# Altium schematic symbol library Schlib1.SchLib: 48 symbols (part 2 of 2)
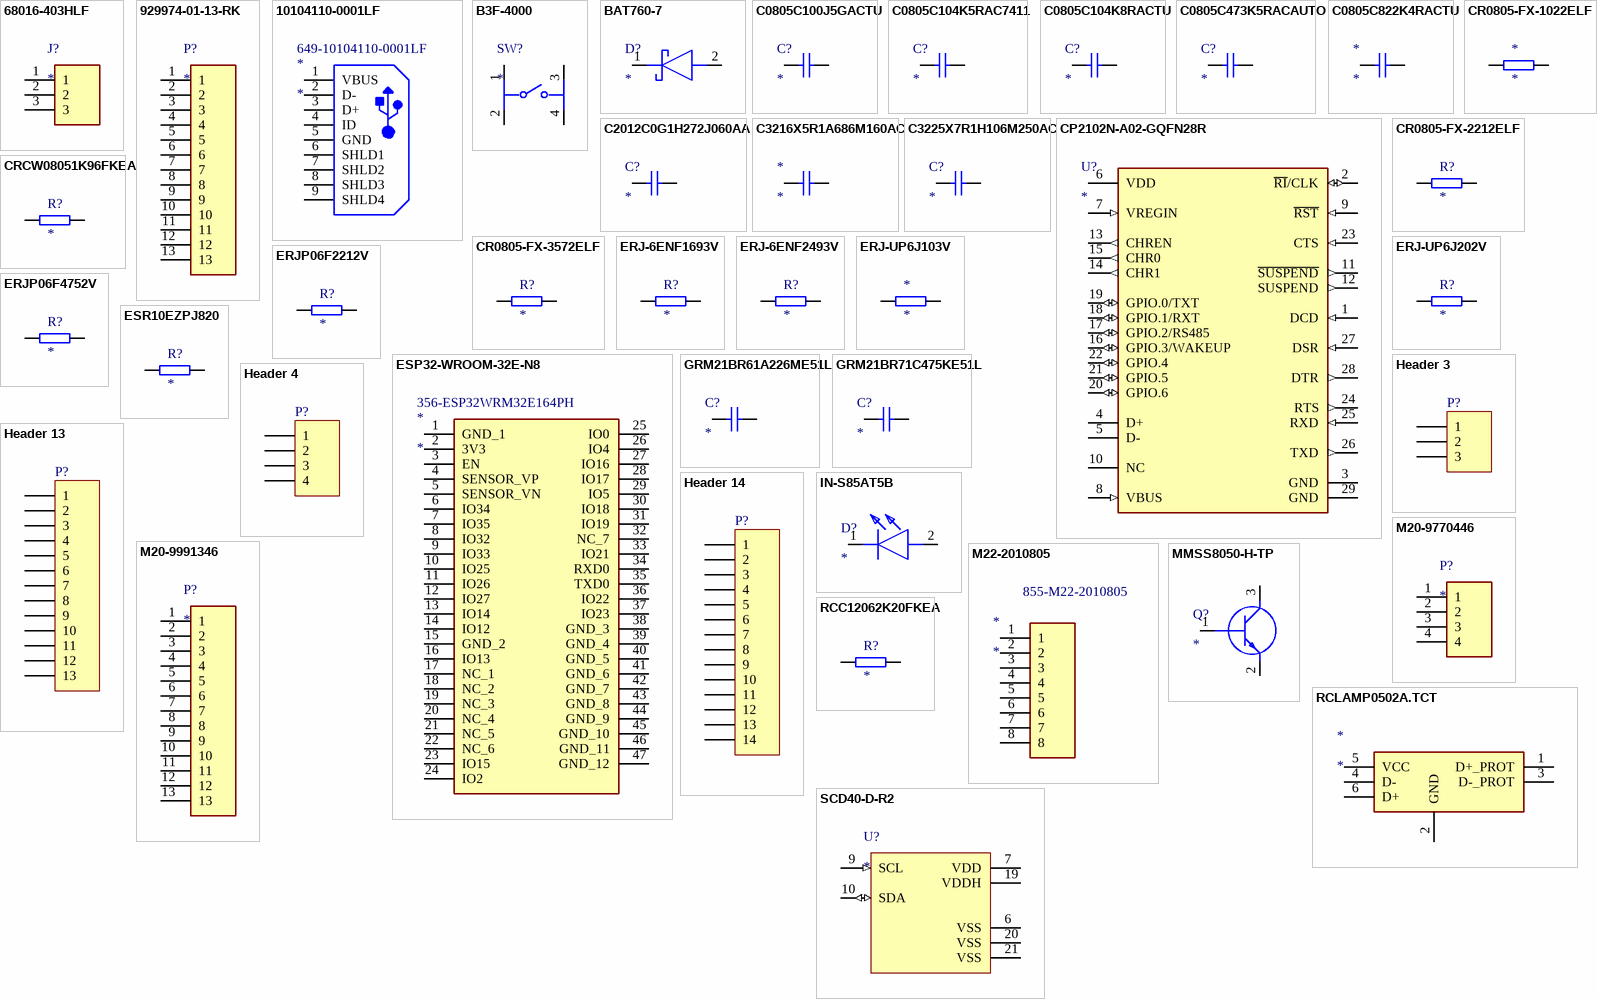
[diagram p2: symbols 68016-403HLF to SCD40-D-R2]

## IN-S85AT5B
designator D?
Led Blue Clear 0805 SMD; Manufacturer: Inolux; Manufacturer Part Number: IN-S85AT5B; Lens Style: Flat; Luminous Intensity: 80mcd; Forward Voltage: 3V; Test Current: 5mA; Viewing Angle: 120°; Dominant Wavelength: 470nm; Lens Size: 1.25mm; Supplier 1: Mouser; RoHS: No; Category: LEDs; Stock 1: 32542; Pricing 1: 1=0,37000, 10=0,20100, 50=0,20100, 100=0,09300, 1000=0,06800, 10000=0,05100 (USD); Mount: Surface Mount; Case/Package: 0805; Color: Blue; Lens Color: Clear; Case Code (Imperial): 0805; Case Code (Metric): 2012; Packaging: Tape and Reel; Lens Transparency: Clear; Length: 2mm; Width: 1.25mm; Height: 1.1mm; ComponentLink1URL: http://www.inolux-corp.com/datasheet/SMDLED/Mono%20Color%20Top%20View/IN-S85AT%20Series_V1.0.pdf?src-supplier=Digi-Key; ComponentLink1Description: http://www.inolux-corp.com/datasheet/SMDLED/Mono%20Color%20Top%20View/IN-S85AT%20Series_V1.0.pdf?src-supplier=Digi-Key; Supplier Part Number 1: 743-IN-S85AT5B
footprint LEDC2012X110N
pins: 1 K, 2 A

## M20-9770446
designator P?
04 SIL VERT PIN HDR; Manufacturer: Harwin; Manufacturer Part Number: M20-9770446; Number of Contacts: 4; Gender: Male; Current Rating: 3A; Voltage Rating: 750V; Connector Type: Male Pin; Contact Resistance: 30mR; Pitch: 2.54mm; Supplier 1: Mouser; RoHS: Yes; Category: Headers and Wire Housings; Stock 1: 20888; Pricing 1: 1=0,20000, 10=0,15300, 50=0,15300, 100=0,12500, 500=0,11300, 1000=0,09100, 2000=0,08100, 10000=0,07300, 25000=0,06800, 50000=0,06600 (USD); Mount: Through Hole; Case/Package: SIL; Housing Color: Black; Contact Plating: Tin; Color: Black; Contact Material: Brass; Housing Material: Nylon; Min Operating Temperature: -40°C; Max Operating Temperature: 105°C; Termination: Solder; Number of Rows: 1; Orientation: Straight; Number of Positions: 4; Package Quantity: 1000; Packaging: Bulk; Max Current Rating: 3A; Length: 10.16mm; Contact Mating Length: 0.228inch; Depth: 2.54mm; ComponentLink1URL: https://datasheet.ciiva.com/6832/m20-977-6832936.pdf?src-supplier=Digi-Key; ComponentLink1Description: https://datasheet.ciiva.com/6832/m20-977-6832936.pdf?src-supplier=Digi-Key; Supplier Part Number 1: 855-M20-9770446
footprint HDRV4W64P0X254_1X4_1016X254X834P
pins: 1, 2, 3, 4

## M20-9991346
designator P?
Conn, Header, 13POS, 1ROW, 2.54MM;; Manufacturer: Harwin; Manufacturer Part Number: M20-9991346; Connector Type: Male Pin; Max Current Rating: 3A; Contact Resistance: 30mR; Number of Positions: 13; Supplier 1: Mouser; RoHS: Yes; Category: Headers and Wire Housings; Stock 1: 1440; Pricing 1: 1=0,49000, 10=0,38900, 50=0,38900, 100=0,33600, 1000=0,25200, 10000=0,20600 (USD); Mount: Through Hole; Case/Package: SIL; Housing Color: Black; Housing Material: Nylon; Contact Plating: Tin; Contact Material: Brass; Color: Black; Min Operating Temperature: -40°C; Max Operating Temperature: 105°C; Orientation: Straight; Number of Rows: 1; Package Quantity: 500; Termination: Solder; Packaging: Bulk; Length: 33.02mm; Pitch: 2.54mm; Contact Mating Length: 0.24inch; Depth: 2.54mm; ComponentLink1URL: https://datasheet.ciiva.com/13139/m20-999-13139749.pdf?src-supplier=Mouser; ComponentLink1Description: https://datasheet.ciiva.com/13139/m20-999-13139749.pdf?src-supplier=Mouser; Supplier Part Number 1: 855-M20-9991346
footprint HDRV13W66P0X254_1X13_3302X254X874P
pins: 1, 2, 3, 4, 5, 6, 7, 8, 9, 10, 11, 12, 13

## M22-2010805
designator *  Supplier Part Number 1: 855-M22-2010805
Connector, Header, 8Pos, 1Row, 2Mm Rohs Compliant: Yes; Manufacturer: Harwin; Manufacturer Part Number: M22-2010805; Number of Contacts: 8; Max Current Rating: 1A; Contact Resistance: 20mR; Voltage Rating: 650V; Insulation Resistance: 10GR; Connector Type: Male Pin; Supplier 1: Mouser; RoHS: Yes; Category: Headers and Wire Housings; Stock 1: 686; Pricing 1: 1=0,57000, 10=0,44500, 50=0,44500, 100=0,38500, 1000=0,28800, 10000=0,23600 (USD); Mount: Through Hole; Case/Package: SIL; Contact Plating: Gold; Contact Material: Bronze; Color: Black; Housing Color: Black; Housing Material: Nylon; Min Operating Temperature: -55°C; Max Operating Temperature: 105°C; Number of Rows: 1; Termination: Solder; Current Rating: 1A; Package Quantity: 1000; Packaging: Bulk; Number of Positions: 8; Orientation: Straight; Series: M22; Contact Type: Male Pin; Length: 16mm; Pitch: 2mm; Contact Mating Length: 0.138inch; Depth: 2mm; Radiation Hardening: No; REACH SVHC: No SVHC; Flammability Rating: UL94 V-0; RoHS Compliant: Yes; ComponentLink1URL: https://datasheet.ciiva.com/11751/0900766b800345c0-11751285.pdf?src-supplier=RSComponents; ComponentLink1Description: https://datasheet.ciiva.com/11751/0900766b800345c0-11751285.pdf?src-supplier=RSComponents; ComponentLink2URL: https://datasheet.ciiva.com/9479/m22-201-9479493.pdf?src-supplier=Avnet; ComponentLink2Description: https://datasheet.ciiva.com/9479/m22-201-9479493.pdf?src-supplier=Avnet; ComponentLink3URL: https://datasheet.ciiva.com/6814/m22-201-6814953.pdf?src-supplier=Digi-Key; ComponentLink3Description: https://datasheet.ciiva.com/6814/m22-201-6814953.pdf?src-supplier=Digi-Key
footprint HDRV8W60P0X200_1X8_1600X200X525P
pins: 1, 2, 3, 4, 5, 6, 7, 8

## MMSS8050-H-TP
designator Q?
NPN Ic=1.5A Vceo=25V hfe=120~350 fT=100MHz; Manufacturer: MCC; Manufacturer Part Number: MMSS8050-H-TP; hFE Min: 120; Max Power Dissipation: 625mW; Collector Emitter Voltage (VCEO): 500mV; Collector Base Voltage (VCBO): 40V; Emitter Base Voltage (VEBO): 5V; Max Collector Current: 1.5A; Collector Emitter Breakdown Voltage: 25V; Transition Frequency: 100MHz; Element Configuration: Single; Supplier 1: Mouser; RoHS: Yes; Category: BJTs; Stock 1: 426; Pricing 1: 1=0,21000, 10=0,17100, 50=0,17100, 100=0,09100, 500=0,06000, 1000=0,04100, 3000=0,03100, 10000=0,03100 (USD); Mount: Surface Mount; Case/Package: SOT-23; Number of Pins: 3; Min Operating Temperature: -55°C; Max Operating Temperature: 150°C; Packaging: Tape and Reel; Package Quantity: 3000; Polarity: NPN; Collector Emitter Saturation Voltage: 500mV; Max Breakdown Voltage: 25V; Gain Bandwidth Product: 100MHz; Collector-emitter Voltage-Max: 500mV; Series: -; Lead Free: Lead Free; RoHS Compliant: Yes; ComponentLink1URL: https://datasheet.ciiva.com/16291/mmss8050-255048-16291447.pdf?src-supplier=Mouser; ComponentLink1Description: https://datasheet.ciiva.com/16291/mmss8050-255048-16291447.pdf?src-supplier=Mouser; ComponentLink2URL: https://datasheet.ciiva.com/972/mmss8050sot-23-972894.pdf?src-supplier=Digi-Key; ComponentLink2Description: https://datasheet.ciiva.com/972/mmss8050sot-23-972894.pdf?src-supplier=Digi-Key; ComponentLink3URL: https://datasheet.ciiva.com/972/mmss8050sot-23-972895.pdf?src-supplier=Digi-Key; ComponentLink3Description: https://datasheet.ciiva.com/972/mmss8050sot-23-972895.pdf?src-supplier=Digi-Key; ComponentLink4URL: https://datasheet.ciiva.com/972/mmss8050sot-23-972893.pdf?src-supplier=Digi-Key; ComponentLink4Description: https://datasheet.ciiva.com/972/mmss8050sot-23-972893.pdf?src-supplier=Digi-Key; Supplier Part Number 1: 833-MMSS8050-H-TP
footprint SI2305TP
pins: 1 B, 2 E, 3 C

## RCC12062K20FKEA
designator R?
Res, Aec-Q200, 2K2, 1%, 0.5W, 1206 Rohs Compliant: Yes; Manufacturer: Vishay; Manufacturer Part Number: RCC12062K20FKEA; Resistance: 2.2k; Supplier 1: Mouser; RoHS: No; Category: Chip SMD Resistors; Stock 1: 10157; Pricing 1: 1=0,32000, 10=0,27600, 50=0,27600, 100=0,10800, 250=0,10700, 1000=0,04500, 5000=0,04300, 10000=0,04300 (USD); Supplier Part Number 1: 71-RCC12062K20FKEA
footprint RCC1206_e3
pins: 1, 2

## RCLAMP0502A.TCT
designator *
TVS二极管 5V IPPM=3A 50W 单向; Manufacturer: Semtech; Manufacturer Part Number: RCLAMP0502A.TCT; Direction: Unidirectional; Capacitance: 0.9pF; Number of Channels: 2; Reverse Breakdown Voltage: 6V; Number of Elements: 1; Clamping Voltage: 18V; Power Line Protection: Yes; Peak Pulse Current: 3A; Test Current: 1mA; Max Reverse Leakage Current: 1uA; Element Configuration: Single; Supplier 1: Mouser; RoHS: Yes; Category: TVS Diodes; Stock 1: 213169; Pricing 1: 1=0,91000, 10=0,79900, 50=0,79900, 100=0,61300, 1000=0,38800, 10000=0,35000 (USD); Mount: Surface Mount; Case/Package: SC; Number of Pins: 6; Min Operating Temperature: -55°C; Max Operating Temperature: 125°C; Packaging: Tape and Reel; Number of Bidirectional Channels: 2; Reverse Standoff Voltage: 5V; Min Breakdown Voltage: 6V; Peak Pulse Power: 50W; Polarity: Unidirectional; Max Breakdown Voltage: 6V; ESD Protection: Yes; Max Power Dissipation: 50W; Leakage Current: 1uA; Current: 3A; Voltage: 5V; Series: RailClamp®; Clamping Voltage-Max: 18V; Length: 1.6mm; Width: 1.2mm; Height: 0.6mm; Radiation Hardening: No; Lead Free: Lead Free; RoHS Compliant: Yes; ComponentLink1URL: https://datasheet.ciiva.com/17052/0900766b80d896e8-17052765.pdf?src-supplier=Allied+Electronics; ComponentLink1Description: https://datasheet.ciiva.com/17052/0900766b80d896e8-17052765.pdf?src-supplier=Allied+Electronics; ComponentLink2URL: https://datasheet.ciiva.com/16208/rclamp0502a-16208898.pdf?src-supplier=Future+Electronics; ComponentLink2Description: https://datasheet.ciiva.com/16208/rclamp0502a-16208898.pdf?src-supplier=Future+Electronics; ComponentLink3URL: https://datasheet.ciiva.com/18065/getdatasheetpartid-185280-18065939.pdf?src-supplier=Verical; ComponentLink3Description: https://datasheet.ciiva.com/18065/getdatasheetpartid-185280-18065939.pdf?src-supplier=Verical; ComponentLink4URL: https://datasheet.ciiva.com/338/rclamp0502a-338509.pdf?src-supplier=Digi-Key; ComponentLink4Description: https://datasheet.ciiva.com/338/rclamp0502a-338509.pdf?src-supplier=Digi-Key; ComponentLink5URL: https://datasheet.ciiva.com/338/rclamp0502a-338510.pdf?src-supplier=Digi-Key; ComponentLink5Description: https://datasheet.ciiva.com/338/rclamp0502a-338510.pdf?src-supplier=Digi-Key; ComponentLink6URL: https://datasheet.ciiva.com/338/rclamp0502a-338508.pdf?src-supplier=Digi-Key; ComponentLink6Description: https://datasheet.ciiva.com/338/rclamp0502a-338508.pdf?src-supplier=Digi-Key; Supplier Part Number 1: 947-RCLAMP0502A.TCT
footprint SOTFL50P162X60-6N
pins: 1 D+_PROT, 2 GND, 3 D-_PROT, 4 D-, 5 VCC, 6 D+

## SCD40-D-R2
designator U?
SCD40-D-R2 CO2 Sensor I2C, SMD ToR 600 pcs; Manufacturer: Sensirion; Supplier 1: Mouser; Manufacturer Part Number: SCD40-D-R2; RoHS: Yes; Stock 1: 1625; Pricing 1: 1=38,78000, 10=33,50000, 50=27,33000, 100=26,45000, 1000=24,69000, 10000=24,69000 (USD); Supplier Part Number 1: 403-SCD40-D-R2
footprint SCD4x (PQFN, 20-Leads, Body 10.10x10.10mm, Pitch 1.25mm, Thermal Pad 4.80x4.80mm, IPC Medium Density)
pins: 6 VSS (power), 7 VDD (power), 9 SCL (in), 10 SDA (io), 19 VDDH (power), 20 VSS (power), 21 VSS (power)

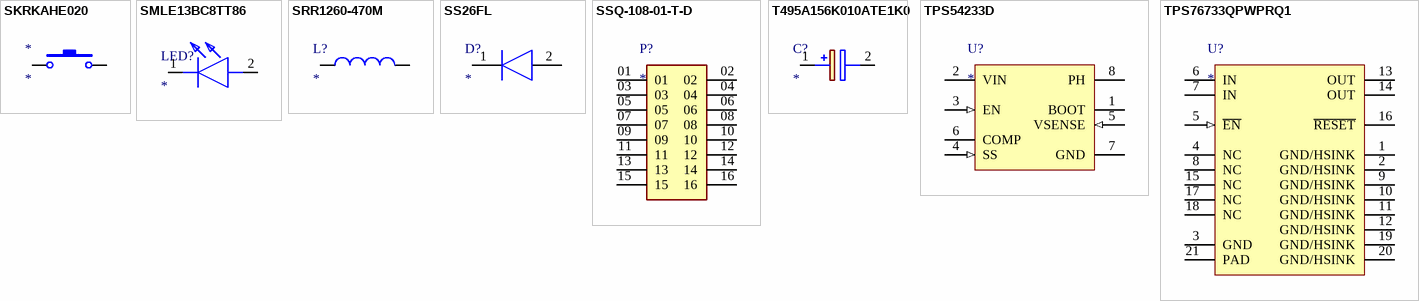
[diagram p1: symbols SKRKAHE020 to TPS76733QPWPRQ1]

## SKRKAHE020
designator *
Switch Tactile N.O. SPST Round Button Gull Wing 0.05A 12VDC 0.98N SMD T/R; Manufacturer: Alps Electric; Manufacturer Part Number: SKRKAHE020; Supplier 1: Mouser; RoHS: Yes; Category: Tactile Switches; Stock 1: 28067; Pricing 1: 1=0,76000, 10=0,67100, 50=0,60600, 100=0,57700, 1000=0,46700, 10000=0,45000 (USD); RoHS Compliant: Yes; Supplier Part Number 1: 688-SKRKAHE010
footprint SKRKAEE020
pins: 1, 2

## SMLE13BC8TT86
designator LED?
LED BLUE CLEAR 0603 SMD; Manufacturer: Rohm; Manufacturer Part Number: SMLE13BC8TT86; Lens Color: Colorless; Lens Style: Diffused,Colorless,Rectangular; Luminous Intensity: 40mcd; Test Current: 5mA; Dominant Wavelength: 470nm; Forward Voltage: 2.9V; Number of LEDs: 1; Supplier 1: Mouser; RoHS: Yes; Category: LEDs; Stock 1: 23165; Pricing 1: 1=0,42000, 10=0,26100, 50=0,26100, 100=0,15000, 1000=0,11800, 10000=0,09700 (USD); Mount: Surface Mount; Case/Package: 0603; Number of Pins: 2; Color: Blue; Case Code (Metric): 1608; Case Code (Imperial): 0603; Packaging: Tape and Reel; Lens Transparency: Clear; Length: 1.6mm; Width: 0.8mm; Height: 0.46mm; Lead Free: Lead Free; RoHS Compliant: Yes; ComponentLink1URL: http://www.farnell.com/datasheets/2291105.pdf?src-supplier=Farnell; ComponentLink1Description: http://www.farnell.com/datasheets/2291105.pdf?src-supplier=Farnell; ComponentLink2URL: http://www.mouser.com/ds/2/348/sml-e1-313074.pdf?src-supplier=Mouser; ComponentLink2Description: http://www.mouser.com/ds/2/348/sml-e1-313074.pdf?src-supplier=Mouser; ComponentLink3URL: https://www.rohm.com/datasheet/SMLE13EC8T?src-supplier=Digi-Key; ComponentLink3Description: https://www.rohm.com/datasheet/SMLE13EC8T?src-supplier=Digi-Key; ComponentLink4URL: http://rohmfs.rohm.com/en/products/databook/datasheet/opto/led/chip_mono/sml-e1.pdf?src-supplier=Avnet; ComponentLink4Description: http://rohmfs.rohm.com/en/products/databook/datasheet/opto/led/chip_mono/sml-e1.pdf?src-supplier=Avnet; Supplier Part Number 1: 755-SMLE13BC8TT86
footprint LEDC1608X46N
pins: 1 K, 2 A

## SRR1260-470M
designator L?
Inductor Power Shielded Wirewound 47uH 20% 100KHz 22Q-Factor Ferrite 2.6A 86mOhm DCR T/R; Manufacturer: Bourns; Manufacturer Part Number: SRR1260-470M; Material: Steel; Self Resonant Frequency: 7.63MHz; Saturation Current: 2.5A; DC Resistance (DCR): 86mR; Q Factor: 22; Supplier 1: Mouser; RoHS: Yes; Category: Fixed Inductors; Stock 1: 4692; Pricing 1: 1=1,36000, 10=1,02000, 50=1,02000, 100=0,91300, 1000=0,69900, 10000=0,52900 (USD); Mount: Surface Mount; Case/Package: 1260; Core Material: Ferrite; Min Operating Temperature: -40°C; Max Operating Temperature: 125°C; Tolerance: 20%; Inductance: 47uH; Max DC Current: 2.6A; Series: SRR1260; Inductance Tolerance: 20%; Packaging: Tape and Reel; Package Quantity: 600; Current Rating: 2.6A; Shielding: Shielded; Test Frequency: 100kHz; Termination: SMD/SMT; RMS Current (Irms): 2.6A; Resistor Type: Wirewound; DC Current: 2.6A; Frequency: 7.63MHz; Resistance: 86MR; Sample Rate (Hz): 100kHz; Length: 12.5mm; Width: 12.5mm; Height: 6mm; Depth: 12.8mm; Height - Seated (Max): 0.256inch; Radiation Hardening: No; RoHS Compliant: Yes; REACH SVHC: No SVHC; Military Standard: Not; ComponentLink1URL: https://datasheet.ciiva.com/11799/0900766b80defded-11799944.pdf?src-supplier=RSComponents; ComponentLink1Description: https://datasheet.ciiva.com/11799/0900766b80defded-11799944.pdf?src-supplier=RSComponents; ComponentLink2URL: https://datasheet.ciiva.com/1062/srr1260-1062578.pdf?src-supplier=Digi-Key; ComponentLink2Description: https://datasheet.ciiva.com/1062/srr1260-1062578.pdf?src-supplier=Digi-Key; ComponentLink3URL: https://datasheet.ciiva.com/1062/srr1260-1062579.pdf?src-supplier=Digi-Key; ComponentLink3Description: https://datasheet.ciiva.com/1062/srr1260-1062579.pdf?src-supplier=Digi-Key; ComponentLink4URL: https://datasheet.ciiva.com/1062/srr1260-1062580.pdf?src-supplier=Digi-Key; ComponentLink4Description: https://datasheet.ciiva.com/1062/srr1260-1062580.pdf?src-supplier=Digi-Key; ComponentLink5URL: https://datasheet.ciiva.com/8517/srr1260-8517158.pdf?src-supplier=Avnet; ComponentLink5Description: https://datasheet.ciiva.com/8517/srr1260-8517158.pdf?src-supplier=Avnet; ComponentLink6URL: https://datasheet.ciiva.com/17111/70277056-17111735.pdf?src-supplier=Allied+Electronics; ComponentLink6Description: https://datasheet.ciiva.com/17111/70277056-17111735.pdf?src-supplier=Allied+Electronics; ComponentLink7URL: https://datasheet.ciiva.com/46384/1430852-46384136.pdf?src-supplier=Element14; ComponentLink7Description: https://datasheet.ciiva.com/46384/1430852-46384136.pdf?src-supplier=Element14; ComponentLink8URL: https://datasheet.ciiva.com/6161/1430852-6161177.pdf?src-supplier=Farnell; ComponentLink8Description: https://datasheet.ciiva.com/6161/1430852-6161177.pdf?src-supplier=Farnell; ComponentLink9URL: https://datasheet.ciiva.com/7849/1430852-7849786.pdf?src-supplier=Element14; ComponentLink9Description: https://datasheet.ciiva.com/7849/1430852-7849786.pdf?src-supplier=Element14; ComponentLink10URL: https://datasheet.ciiva.com/48684/srr1260-48684894.pdf?src-supplier=Avnet; ComponentLink10Description: https://datasheet.ciiva.com/48684/srr1260-48684894.pdf?src-supplier=Avnet; ComponentLink11URL: https://datasheet.ciiva.com/7307/1914016-7307759.pdf?src-supplier=Newark; ComponentLink11Description: https://datasheet.ciiva.com/7307/1914016-7307759.pdf?src-supplier=Newark; ComponentLink12URL: https://datasheet.ciiva.com/48690/001056651-da-01-en-mag-abge-l-ind-srr1260-470m-47uh-2-6a-48690779.pdf?src-supplier=Conrad; ComponentLink12Description: https://datasheet.ciiva.com/48690/001056651-da-01-en-mag-abge-l-ind-srr1260-470m-47uh-2-6a-48690779.pdf?src-supplier=Conrad; Supplier Part Number 1: 652-SRR1260-470M
footprint SRR1260470M
pins: 1, 2

## SS26FL
designator D?
Diode Schottky Barrier Rectifier 60V 2A 2-Pin SOD-123F T/R; Manufacturer: ON Semiconductor / Fairchild; Manufacturer Part Number: SS26FL; Reverse Recovery Time: 8.26ns; Element Configuration: Single; Max Forward Surge Current (Ifsm): 50A; Supplier 1: Mouser; RoHS: Yes; Category: Rectifier Diodes; Stock 1: 8320; Pricing 1: 1=0,38000, 10=0,31100, 50=0,31100, 100=0,21200, 1000=0,11900, 10000=0,09500 (USD); Mount: Surface Mount; Case/Package: SOD; Weight: 0.0276g; Packaging: Tape and Reel; Average Rectified Current: 2A; Max Repetitive Reverse Voltage (Vrrm): 60V; Max Reverse Voltage (DC): 60V; RoHS Compliant: Yes; ComponentLink1URL: http://www.farnell.com/datasheets/2552652.pdf?src-supplier=Farnell; ComponentLink1Description: http://www.farnell.com/datasheets/2552652.pdf?src-supplier=Farnell; ComponentLink2URL: http://www.farnell.com/datasheets/2552652.pdf?src-supplier=Element14; ComponentLink2Description: http://www.farnell.com/datasheets/2552652.pdf?src-supplier=Element14; ComponentLink3URL: https://www.fairchildsemi.com/datasheets/SS/SS24FL.pdf?src-supplier=Digi-Key; ComponentLink3Description: https://www.fairchildsemi.com/datasheets/SS/SS24FL.pdf?src-supplier=Digi-Key; ComponentLink4URL: http://www.farnell.com/datasheets/2552652.pdf?src-supplier=Newark; ComponentLink4Description: http://www.farnell.com/datasheets/2552652.pdf?src-supplier=Newark; Supplier Part Number 1: 512-SS26FL
footprint SODFL3617X108N
pins: 1 K, 2 A

## SSQ-108-01-T-D
designator P?
Headers & Wire Housings Tiger Buy Socket Strip with Square Tails, 0.100 Pitch; Manufacturer: Samtec; Manufacturer Part Number: SSQ-108-01-T-D; Number of Contacts: 16; Gender: Female; Max Current Rating: 7.6A; Contact Resistance: 10mR; Connector Type: Receptacle; Max Voltage Rating (AC): 550V; Pitch: 2.54mm; Row Spacing: 0.1inch; Supplier 1: Mouser; RoHS: Yes; Category: Headers and Wire Housings; Stock 1: 1213; Pricing 1: 1=2,40000, 10=2,18000, 50=2,18000, 100=1,86000, 500=1,55000, 1000=1,33000, 2500=1,23000, 5000=1,18000, 10000=1,15000, 25000=1,12000 (USD); Mount: Through Hole; Contact Plating: Tin,Matte; Contact Material: Bronze; Color: Black; Housing Color: Black; Housing Material: Polymer; Min Operating Temperature: -55°C; Max Operating Temperature: 105°C; Number of Rows: 2; Termination: Solder; Packaging: Bulk; Number of Positions: 16; Orientation: Straight; Series: SSQ; Contact Type: Female Socket; Length: 20.83mm; Width: 4.95mm; Depth: 4.95mm; Lead Free: Lead Free; RoHS Compliant: Yes; ComponentLink1URL: https://datasheet.ciiva.com/748/ssq-1xx-xx-xxx-x-xx-xxx-xx-x-mkt-748536.pdf?src-supplier=Digi-Key; ComponentLink1Description: https://datasheet.ciiva.com/748/ssq-1xx-xx-xxx-x-xx-xxx-xx-x-mkt-748536.pdf?src-supplier=Digi-Key; Supplier Part Number 1: 200-SSQ10801TD
footprint SAMTEC_SSQ-108-XX-X-D
pins: 01, 02, 03, 04, 05, 06, 07, 08, 09, 10, 11, 12, 13, 14, 15, 16

## T495A156K010ATE1K0
designator C?
Cap Tant Solid 15uF 10V A CASE 10% (3.2 X 1.6 X 1.6mm) Inward L SMD 3216-18 1 Ohm 125C Automotive T/R; Manufacturer: KEMET; Manufacturer Part Number: T495A156K010ATE1K0; ESR (Equivalent Series Resistance): 1R; Life (Hours): 2000Hour; Supplier 1: Mouser; RoHS: Yes; Category: Tantalum Capacitors; Stock 1: 278; Pricing 1: 1=0,73000, 10=0,59100, 50=0,44700, 100=0,38900, 1000=0,30900, 10000=0,28100 (USD); Mount: Surface Mount; Case/Package: 1206; Case Code (Metric): 3216; Case Code (Imperial): 1206; Min Operating Temperature: -55°C; Max Operating Temperature: 125°C; Package Quantity: 2000; Packaging: Tape and Reel; Capacitance: 15uF; Tolerance: 10%; Voltage Rating: 10V; Features: General Purpose; Length: 0.126inch; Width: 0.063inch; Height - Seated (Max): 0.071inch; RoHS Compliant: Yes; ComponentLink1URL: http://www.kemet.com/docfinder?Partnumber=T495A156K010ATE1K0&src-supplier=Digi-Key; ComponentLink1Description: http://www.kemet.com/docfinder?Partnumber=T495A156K010ATE1K0&src-supplier=Digi-Key; ComponentLink2URL: https://api.kemet.com/component-edge/download/datasheet/T495A156K010ATE1K0.pdf?src-supplier=Digi-Key; ComponentLink2Description: https://api.kemet.com/component-edge/download/datasheet/T495A156K010ATE1K0.pdf?src-supplier=Digi-Key; Supplier Part Number 1: 80-T495A156K10ATE1K0
footprint CAPPM3216X180N
pins: 1 +, 2 -

## TPS54233D
designator U?
3.5 to 28V Input, 2A, 300kHz Step-Down Converter with Eco-mode 8-SOIC -40 to 150; Manufacturer: Texas Instruments; Manufacturer Part Number: TPS54233D; Output Voltage: 25V; Number of Outputs: 1; Min Input Voltage: 3.5V; Min Output Voltage: 800mV; Synchronous Rectifier: No; Quiescent Current: 110uA; Output Type: Adjustable; Output Configuration: Positive; Supplier 1: Mouser; RoHS: Yes; Category: Voltage Regulators - Switching; Stock 1: 4197; Pricing 1: 1=2,13000, 10=1,92000, 25=1,81000, 50=1,81000, 100=1,54000, 250=1,44000, 375=1,26000, 1000=1,26000, 1125=1,05000, 10000=1,05000 (USD); Case/Package: D; Number of Pins: 8; Weight: 0.002561oz; Contact Plating: Gold; Min Operating Temperature: -40°C; Max Operating Temperature: 150°C; Packaging: Rail/Tube; Switching Frequency: 300kHz; Output Current: 2A; Package Quantity: 75; Max Output Current: 2A; Max Input Voltage: 28V; Max Output Voltage: 25V; Operating Supply Voltage: 28V; Series: SWIFT™, Eco-Mode™; Length: 4.9mm; Width: 3.91mm; Height: 1.58mm; Radiation Hardening: No; Lead Free: Lead Free; RoHS Compliant: Yes; REACH SVHC: No SVHC; ComponentLink1URL: https://datasheet.ciiva.com/2035/tps54233-2035392.pdf?src-supplier=Digi-Key; ComponentLink1Description: https://datasheet.ciiva.com/2035/tps54233-2035392.pdf?src-supplier=Digi-Key; ComponentLink2URL: https://datasheet.ciiva.com/4118/47079537s8453800n7713-4118932.pdf?src-supplier=Arrow+Electronics; ComponentLink2Description: https://datasheet.ciiva.com/4118/47079537s8453800n7713-4118932.pdf?src-supplier=Arrow+Electronics; Supplier Part Number 1: 595-TPS54233D
footprint D0008A_L (SOIC, 8-Leads, Body 5x4mm, Pitch 1.27mm, IPC High Density)
footprint D0008A_M (SOIC, 8-Leads, Body 5x4mm, Pitch 1.27mm, IPC Low Density)
footprint D0008A_N (SOIC, 8-Leads, Body 5x4mm, Pitch 1.27mm, IPC Medium Density)
pins: 1 BOOT "A 0.1 uF bootstrap capacitor is required between BOOT and PH. If the voltage on this capacitor falls below the minimum requirement, the high-side MOSFET is forced to switch off until the capacitor is refreshed.", 2 VIN (power) "Input supply voltage, 3.5 V to 28 V.", 3 EN (in) "Enable pin. Pull below 1.25V to disable. Float to enable. Programming the input undervoltage lockout with two resistors is recommended.", 4 SS (in) "Slow start pin. An external capacitor connected to this pin sets the output rise time.", 5 VSENSE (in) "Inverting node of the gm error amplifier", 6 COMP "Error amplifier output, and input to the PWM comparator. Connect frequency compensation components to this pin.", 7 GND (power) "Ground.", 8 PH (power) "The source of the internal high-side power MOSFET."

## TPS76733QPWPRQ1
designator U?
Automotive 1-A, 10-V, low-dropout voltage regulator with enable 20-HTSSOP -40 to 125; Manufacturer: Texas Instruments; Manufacturer Part Number: TPS76733QPWPRQ1; Max Power Dissipation: 7.2W; Dropout Voltage: 350mV; Output Current: 1A; Output Voltage: 3.3V; Number of Outputs: 1; Max Input Voltage: 10V; Min Input Voltage: 2.7V; Input Bias Current: 85uA; Polarity: Positive; Quiescent Current: 80uA; Accuracy: 2%; Output Type: Fixed; Supplier 1: Mouser; RoHS: Yes; Category: Voltage Regulators - Linear; Stock 1: 472; Pricing 1: 1=5,02000, 10=4,51000, 50=4,26000, 100=3,70000, 1000=2,75000, 10000=2,75000 (USD); Case/Package: HTSSOP; Number of Pins: 20; Min Operating Temperature: -40°C; Max Operating Temperature: 125°C; Packaging: Tape and Reel; Package Quantity: 1; Max Output Current: 1A; Number of Regulators: 1; Power Dissipation: 7.2W; Min Output Voltage: 3.3V; Output Voltage Accuracy: 2%; Max Output Voltage: 3.3V; Series: Automotive, AEC-Q100; Radiation Hardening: No; REACH SVHC: Unknown; Lead Free: Lead Free; RoHS Compliant: Yes; ComponentLink1URL: https://datasheet.ciiva.com/2046/tps76715-q1-2046224.pdf?src-supplier=Digi-Key; ComponentLink1Description: https://datasheet.ciiva.com/2046/tps76715-q1-2046224.pdf?src-supplier=Digi-Key; ComponentLink2URL: https://datasheet.ciiva.com/14275/tps76733-q1-14275667.pdf?src-supplier=Avnet; ComponentLink2Description: https://datasheet.ciiva.com/14275/tps76733-q1-14275667.pdf?src-supplier=Avnet; ComponentLink3URL: https://datasheet.ciiva.com/2046/tps76715-q1-2046223.pdf?src-supplier=Digi-Key; ComponentLink3Description: https://datasheet.ciiva.com/2046/tps76715-q1-2046223.pdf?src-supplier=Digi-Key; ComponentLink4URL: https://datasheet.ciiva.com/2046/tps76715-q1-2046222.pdf?src-supplier=Digi-Key; ComponentLink4Description: https://datasheet.ciiva.com/2046/tps76715-q1-2046222.pdf?src-supplier=Digi-Key; Supplier Part Number 1: 595-TPS76733QPWPRQ1
footprint PWP0020L_L (SOP, 20-Leads, Body 6.6x4.5mm, Pitch 0.65mm, Thermal Pad 3.38x2.4mm, IPC High Density)
footprint PWP0020L_M (SOP, 20-Leads, Body 6.6x4.5mm, Pitch 0.65mm, Thermal Pad 3.38x2.4mm, IPC Low Density)
footprint PWP0020L_N (SOP, 20-Leads, Body 6.6x4.5mm, Pitch 0.65mm, Thermal Pad 3.38x2.4mm, IPC Medium Density)
pins: 1 GND/HSINK (power) "Ground/heatsink", 2 GND/HSINK (power) "Ground/heatsink", 3 GND (power) "Regulator ground", 4 NC "No connect", 5 ~{EN} (in) "Enable", 6 IN (power) "Input voltage", 7 IN (power) "Input voltage", 8 NC "No connect", 9 GND/HSINK (power) "Ground/heatsink", 10 GND/HSINK (power) "Ground/heatsink", 11 GND/HSINK (power) "Ground/heatsink", 12 GND/HSINK (power) "Ground/heatsink", 13 OUT (power) "Regulated output voltage", 14 OUT (power) "Regulated output voltage", 15 NC "No connect", 16 ~{RESET} (hiz) "Reset", 17 NC "No connect", 18 NC "No connect", 19 GND/HSINK (power) "Ground/heatsink", 20 GND/HSINK (power) "Ground/heatsink", 21 PAD "Exposed Thermal Pad"